# Altium footprint library HPL505032F1060MRD3P.PcbLib: 1 footprints
Each footprint in its own frame and in the unit in brackets; x right, y up, seen from the top. Pads: shape width x height; smd on the part's side, far side on the other; paste and mask are expansions set on the pad; w line width, h text height; cw(c..) or ccw(c..) is an arc to the next point about the centre after c.
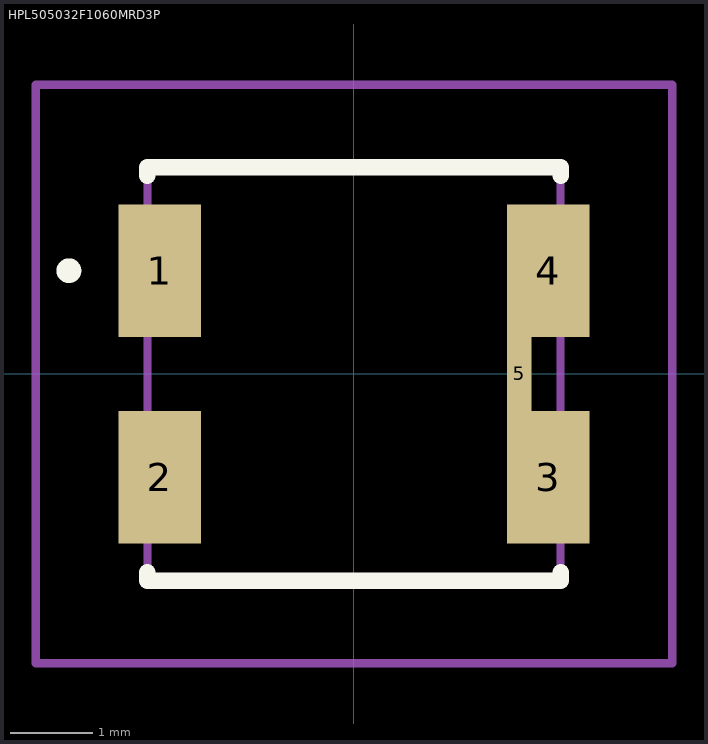
[diagram p0: the footprint, top view; thin cyan lines are the x and y axes]

## HPL505032F1060MRD3P [mm]
pads (5):
  rect 1x1.6 smd: 1(-2.35,1.25) 2(-2.35,-1.25) 3(2.35,-1.25) 4(2.35,1.25)
  rect 0.3x0.9 smd: 5(2,0)
Top Overlay:
  lines w0.2: -2.5,-2.4 -2.5,-2.5 2.5,-2.5 2.5,-2.4 ; -2.5,2.4 -2.5,2.5 2.5,2.5 2.5,2.4 ; -3.5,1.25 -3.5,1.25 ; -3.5,1.25 ccw(c-3.45,1.25) -3.4,1.25 ; -3.5,1.25 cw(c-3.45,1.25) -3.4,1.25 ; -3.5,1.25 -3.5,1.25 ; -3.5,1.25 ccw(c-3.45,1.25) -3.4,1.25 ; -3.4,1.25 -3.4,1.25
Mechanical 15:
  lines w0.1: -2.5,-2.5 2.5,-2.5 2.5,2.5 -2.5,2.5 -2.5,-2.5
Mechanical 20:
  lines w0.1: -3.85,-3.5 3.85,-3.5 3.85,3.5 -3.85,3.5 -3.85,-3.5